# Altium footprint library 530480410.PcbLib: 1 footprints
Each footprint in its own frame and in the unit in brackets; x right, y up, seen from the top. Pads: shape width x height; smd on the part's side, far side on the other; paste and mask are expansions set on the pad; w line width, h text height; cw(c..) or ccw(c..) is an arc to the next point about the centre after c.
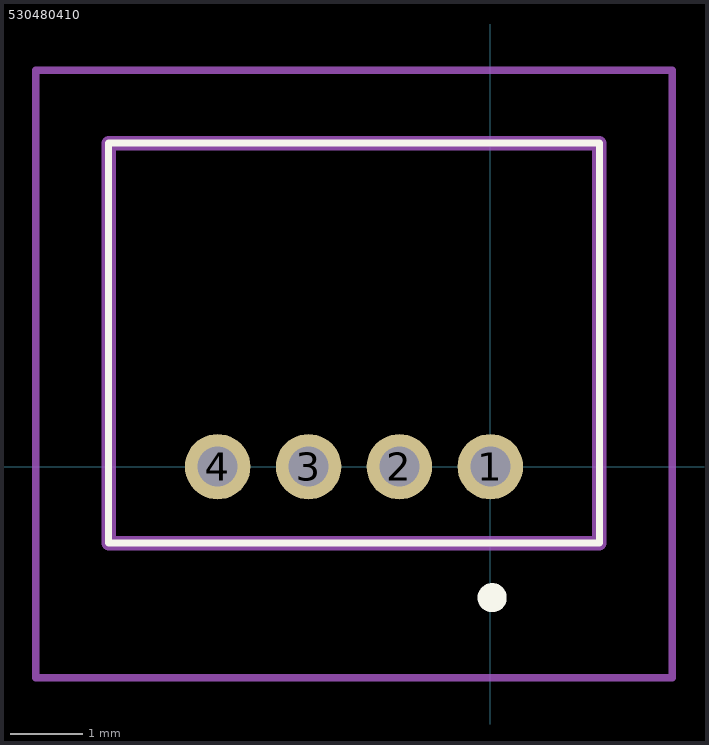
[diagram p0: the footprint, top view; thin cyan lines are the x and y axes]

## 530480410 [mm]
pads (4):
  round 0.9 hole 0.55: 1(0,0) 2(-1.25,0) 3(-2.5,0) 4(-3.75,0)
Top Overlay:
  lines w0.1: -5.25,-1.05 1.5,-1.05 1.5,4.45 -5.25,4.45 -5.25,-1.05
  lines w0.2: -0.075,-1.8 -0.075,-1.8 ; -0.075,-1.8 ccw(c0.025,-1.8) 0.125,-1.8 ; -0.075,-1.8 cw(c0.025,-1.8) 0.125,-1.8 ; 0.125,-1.8 0.125,-1.8
Mechanical 15:
  lines w0.2: -5.25,-1.05 1.5,-1.05 1.5,4.45 -5.25,4.45 -5.25,-1.05
Mechanical 20:
  lines w0.1: -6.25,-2.9 2.5,-2.9 2.5,5.45 -6.25,5.45 -6.25,-2.9